# EAGLE library part FPF3381 (library Public)
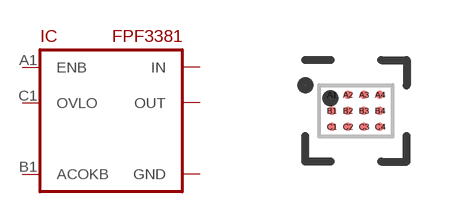
[diagram p161: symbol with the pads of WLCSP12; footprint WLCSP12]

Designator prefix IC

## FPF3381  [WLCSP12]
A1  ENB
A2  OUT
A3  OUT
A4  GND
B1  ACOKB
B2  OUT
B3  IN
B4  GND
C1  OVLO
C2  IN
C3  IN
C4  GND

## Footprint WLCSP12 (pad centres in mm)
smd 0.215 x 0.215: A1 -0.6,0.4; A2 -0.2,0.4; A3 0.2,0.4; A4 0.6,0.4; B1 -0.6,0; B2 -0.2,0; B3 0.2,0; B4 0.6,0; C1 -0.6,-0.4; C2 -0.2,-0.4; C3 0.2,-0.4; C4 0.6,-0.4